# Altium schematic symbol library Capacitors.SchLib: 5 symbols
Pins are listed as number, name and electrical type; pins without a type are passive.

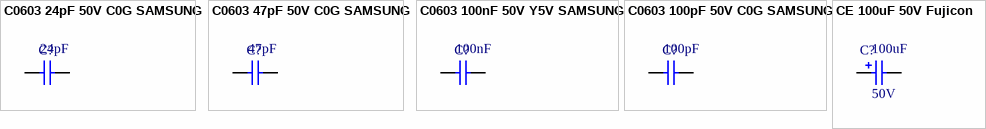
[diagram p0: symbols C0603 24pF 50V C0G SAMSUNG to CE 100uF 50V Fujicon]

## C0603 24pF 50V C0G SAMSUNG
designator C?  value 24pF
Capacitor; PartNumber: CL10C240JBNC; Manufacturer: Samsung; Voltage: 50V; Tolerance: 5%; Published: 8-Jun-2000; LatestRevisionDate: 17-Jul-2002; LatestRevisionNote: Re-released for DXP Platform.; PackageReference: RAD-0.3; Publisher: Altium Limited; PackageDescription: Radial Cap, Thru-Hole; 2 Leads; 0.3 in Pin Spacing; Supplier: Comet; Temperature: -55°C ~ +125°C
simulation model CAP (Capacitor)
signal-integrity model Cap
footprint C0603
pins: 1, 2

## C0603 47pF 50V C0G SAMSUNG
designator C?  value 47pF
Capacitor; PartNumber: CL10C470JBNC; Manufacturer: Samsung; Voltage: 50V; Tolerance: 5%; Published: 8-Jun-2000; LatestRevisionDate: 17-Jul-2002; LatestRevisionNote: Re-released for DXP Platform.; PackageReference: RAD-0.3; Publisher: Altium Limited; PackageDescription: Radial Cap, Thru-Hole; 2 Leads; 0.3 in Pin Spacing; Supplier: Comet; Temperature: -55°C ~ +125°C
simulation model CAP (Capacitor)
signal-integrity model Cap
footprint C0603
pins: 1, 2

## C0603 100nF 50V Y5V SAMSUNG
designator C?  value 100nF
Capacitor; PartNumber: CL10F104ZBNC; Manufacturer: Samsung; Voltage: 50V; Tolerance: 5%; Published: 8-Jun-2000; LatestRevisionDate: 17-Jul-2002; LatestRevisionNote: Re-released for DXP Platform.; PackageReference: 0603; Publisher: Altium Limited; PackageDescription: SMD package; Supplier: Comet; Temperature: -55°C ~ +125°C
simulation model CAP (Capacitor)
signal-integrity model Cap
footprint C0603
pins: 1, 2

## C0603 100pF 50V C0G SAMSUNG
designator C?  value 100pF
Capacitor; PartNumber: CL10C101JBNC; Manufacturer: Samsung; Voltage: 50V; Tolerance: 5%; Published: 8-Jun-2000; LatestRevisionDate: 17-Jul-2002; LatestRevisionNote: Re-released for DXP Platform.; PackageReference: RAD-0.3; Publisher: Altium Limited; PackageDescription: Radial Cap, Thru-Hole; 2 Leads; 0.3 in Pin Spacing; Supplier: Comet; Temperature: -55°C ~ +125°C
simulation model CAP (Capacitor)
signal-integrity model Cap
footprint C0603
pins: 1, 2

## CE 100uF 50V Fujicon
designator C?  value 100uF  Voltage: 50V
Electrolytic Capacitor; Published: 8-Jun-2000; LatestRevisionDate: 17-Jul-2002; LatestRevisionNote: Re-released for DXP Platform.; PackageReference: RB7.6-15; Publisher: Altium Limited; PackageDescription: Polarized Capacitor (Radial); 2 Leads
simulation model CAP (Capacitor)
signal-integrity model Cap Pol
footprint C8x12
pins: 1, 2
1 alternate drawing of the same symbol